# Altium schematic symbol library cstce12mog52a_r0.SchLib: 1 symbol
Pins are listed as number, name and electrical type; pins without a type are passive.

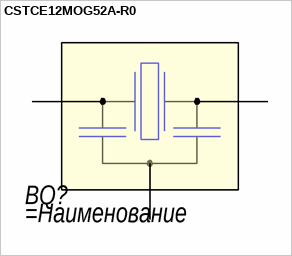
[diagram p0: symbol CSTCE12MOG52A-R0]

## CSTCE12MOG52A-R0
designator BQ?
pins: 1, 2, 3